# Altium footprint library ANT_838-898MHZ_TCA14A.pcblib: 1 footprints
Each footprint in its own frame and in the unit in brackets; x right, y up, seen from the top. Pads: shape width x height; smd on the part's side, far side on the other; paste and mask are expansions set on the pad; w line width, h text height; cw(c..) or ccw(c..) is an arc to the next point about the centre after c.
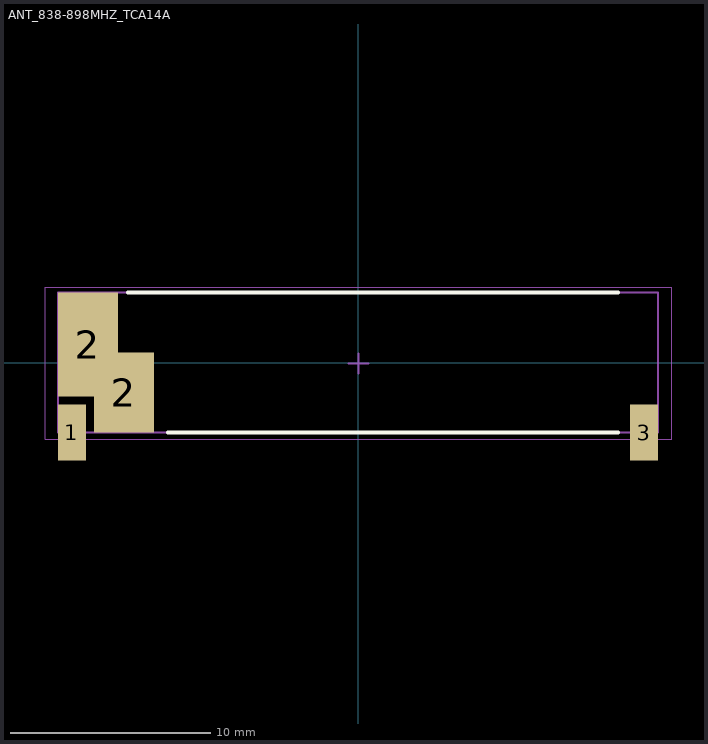
[diagram p0: the footprint, top view; thin cyan lines are the x and y axes]

## ANT_838-898MHZ_TCA14A [mm] "Chip Antenna, 3-Leads, Body 30,00x7,00mm"
height 1.8
pads (4):
  rect 1.4x2.8 smd: 1(-14.3,-3.5) 3(14.3,-3.5)
  rect 3x5.2 smd: 2(-13.5,0.9)
  rect 3x4 smd: 2(-11.7,-1.5)
Top Overlay:
  lines w0.2: -11.5,3.5 13,3.5 ; -9.5,-3.5 13,-3.5
Mechanical 13:
  lines w0.1: -15,-3.5 -15,3.5 15,3.5 15,-3.5 -15,-3.5
Mechanical 15:
  lines w0.05: -15.619,-3.843 -15.619,3.757 15.681,3.757 15.681,-3.843 -15.619,-3.843
  lines w0.1: -0.469,-0.043 0.531,-0.043 ; 0.031,-0.543 0.031,0.457
Mechanical 17:
  text "'.Designator'" at -10.2,-3.1 h0.51
Mechanical 19:
  text "'.Comment'" at -10.2,-3.1 h0.51
3D body: height 1.8, standoff 0, extent -13.6,-3.5 13.5,3.5
3D body: height 1.8, standoff 0, extent -15,-3.5 -13.6,3.5
3D body: height 1.8, standoff 0, extent 13.5,-3.5 15,3.5